# EAGLE library part 418127160905 (library Eagle_Wuerth_Elektronik_Switch)
WS-IC-2.54 mm small compact THT Dip Switch with top tape,10 pins,5 poles
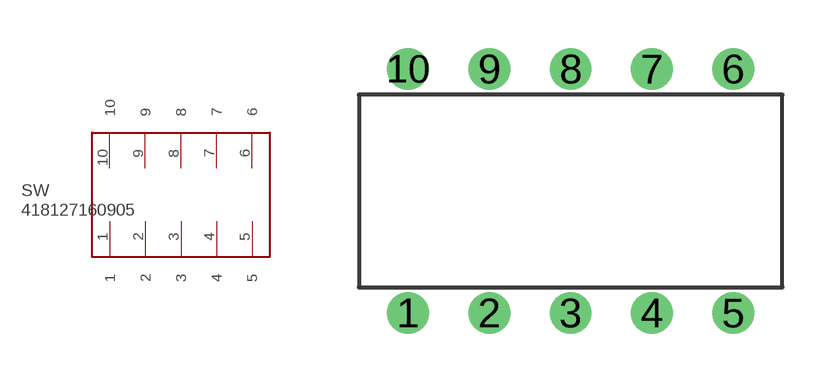
[diagram p50: symbol with the pads of 418127160905; footprint 418127160905]

Designator prefix SW

## 418127160905  [418127160905]
1  1
2  2
3  3
4  4
5  5
6  6
7  7
8  8
9  9
10  10

## Footprint 418127160905 (pad centres in mm)
WS-IC-2.54 mm small compact THT Dip Switch with top tape,10 pins,5 poles
drill 0.8: 1 0,-3.81; 2 2.54,-3.81; 3 5.08,-3.81; 4 7.62,-3.81; 5 10.16,-3.81; 6 10.16,3.81; 7 7.62,3.81; 8 5.08,3.81; 9 2.54,3.81; 10 0,3.81